# EAGLE library part ATTINY10-TSHR (library attiny10)
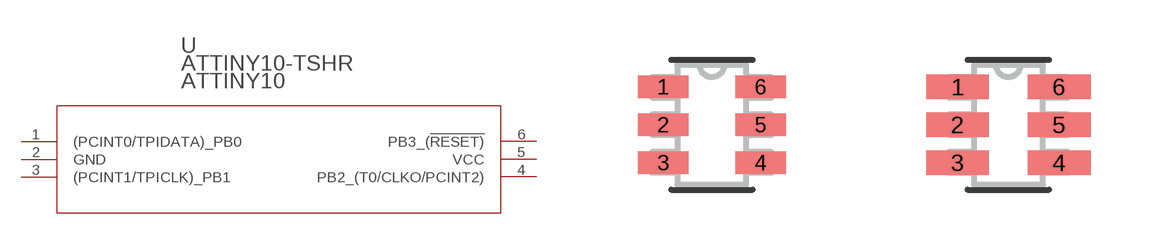
[diagram p0: symbol with the pads of 6ST1; footprints 6ST1, 6ST1-M]

Designator prefix U

## ATTINY10-TSHR (MANUFACTURER_PART_NUMBER: ATTINY10TSHR; VENDOR: Atmel)  [6ST1]
1  (PCINT0/TPIDATA)_PB0
2  GND  pwr
3  (PCINT1/TPICLK)_PB1
4  PB2_(T0/CLKO/PCINT2)
5  VCC  pwr
6  PB3_(!RESET)

## ATTINY10-TSHR6ST1-M (MANUFACTURER_PART_NUMBER: ATTINY10TSHR; VENDOR: Atmel)  [6ST1-M]
Pads as for 6ST1

## ATTINY10-TSHR6ST1-L (MANUFACTURER_PART_NUMBER: ATTINY10TSHR; VENDOR: Atmel)  [6ST1-L]
Pads as for 6ST1

## Footprint 6ST1 (pad centres in mm)
smd 1.27 x 0.559: 1 -1.219,0.95; 2 -1.219,0; 3 -1.219,-0.95; 4 1.219,-0.95; 5 1.219,0; 6 1.219,0.95

## Footprint 6ST1-M (pad centres in mm)
smd 1.575 x 0.61: 1 -1.27,0.95; 2 -1.27,0; 3 -1.27,-0.95; 4 1.27,-0.95; 5 1.27,0; 6 1.27,0.95

## Footprint 6ST1-L (pad centres in mm)
smd 0.965 x 0.508: 1 -1.168,0.95; 2 -1.168,0; 3 -1.168,-0.95; 4 1.168,-0.95; 5 1.168,0; 6 1.168,0.95